# Altium footprint library CONN_TBLOCK_5P08.PcbLib: 72 footprints (part 2 of 5)
Each footprint in its own frame and in the unit in brackets; x right, y up, seen from the top. Pads: shape width x height; smd on the part's side, far side on the other; paste and mask are expansions set on the pad; w line width, h text height; cw(c..) or ccw(c..) is an arc to the next point about the centre after c.
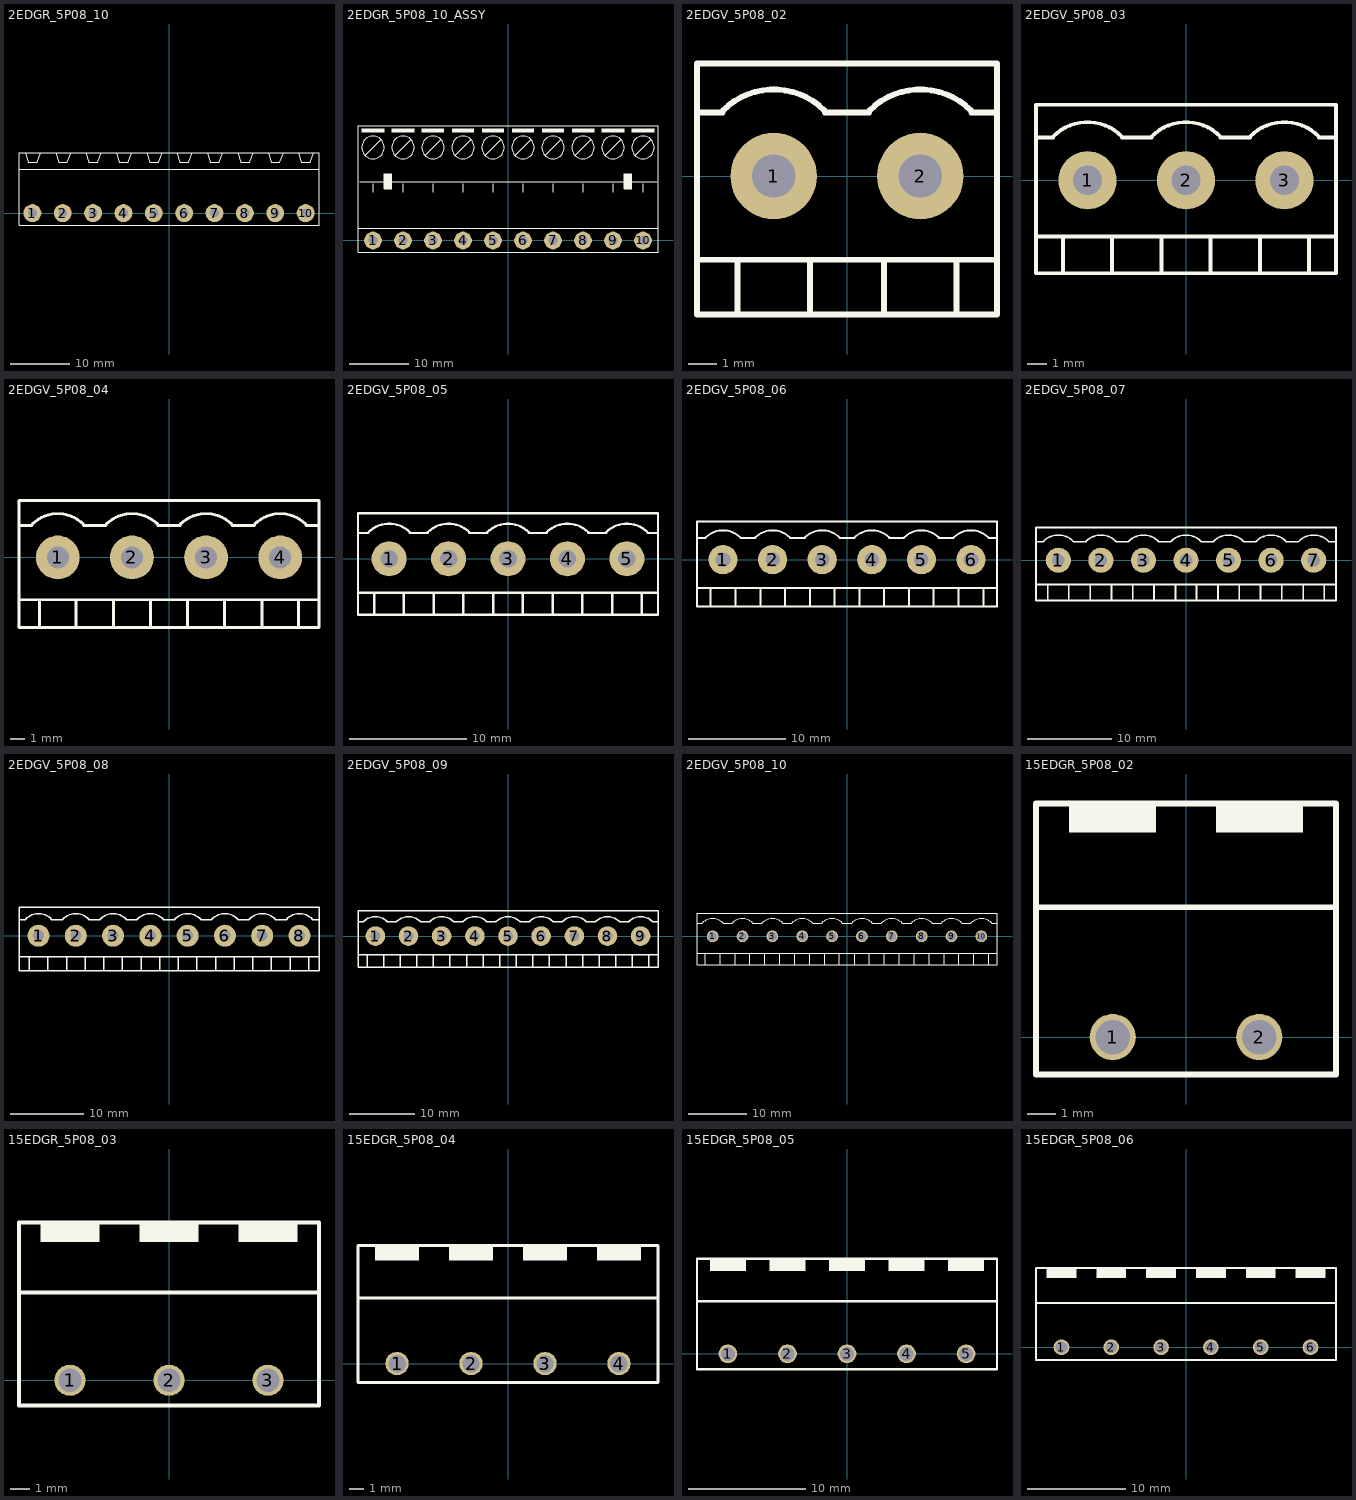
[diagram p1: the footprints below, top view; thin cyan lines are the x and y axes]

## 2EDGR_5P08_10 [mm] "Terminal Plug, pitch 5.08mm, PHOENIX MSTB 2,5/ x-G-5,08"
pads (10):
  round 3 hole 1.5: 1(-22.86,0) 2(-17.78,0) 3(-12.7,0) 4(-7.62,0) 5(-2.54,0) 6(2.54,0) 7(7.62,0) 8(12.7,0) 9(17.78,0) 10(22.86,0)
Top Overlay:
  lines w0.2: -25.1,7.3 25.1,7.3 ; -24.07,10.1 -23.57,8.5 -22.07,8.5 -21.47,10.1 ; -18.99,10.1 -18.49,8.5 -16.99,8.5 -16.39,10.1 ; -13.91,10.1 -13.41,8.5 -11.91,8.5 -11.31,10.1 ; -8.83,10.1 -8.33,8.5 -6.83,8.5 -6.23,10.1 ; -3.75,10.1 -3.25,8.5 -1.75,8.5 -1.15,10.1 ; 1.33,10.1 1.83,8.5 3.33,8.5 3.93,10.1 ; 6.41,10.1 6.91,8.5 8.41,8.5 9.01,10.1 ; 11.49,10.1 11.99,8.5 13.49,8.5 14.09,10.1 ; 16.57,10.1 17.07,8.5 18.57,8.5 19.17,10.1 ; 21.65,10.1 22.15,8.5 23.65,8.5 24.25,10.1 ; -25.1,-2.032 25.1,-2.032 25.1,10.1 -25.1,10.1 -25.1,-2.032
3D body "PHOENIX_MSTB10.stp": height 8.6, standoff -3.5, extent -25,-2 25,10

## 2EDGR_5P08_10_ASSY [mm] "Terminal Plug, pitch 5.08mm, PHOENIX MSTB 2,5/ x-G-5,08"
pads (10):
  round 3 hole 1.5: 1(-22.86,0) 2(-17.78,0) 3(-12.7,0) 4(-7.62,0) 5(-2.54,0) 6(2.54,0) 7(7.62,0) 8(12.7,0) 9(17.78,0) 10(22.86,0)
Top Overlay:
  circle w0.2: c-17.78,15.748 r1.905
  circle w0.2: c-22.86,15.748 r1.905
  circle w0.2: c22.86,15.748 r1.905
  circle w0.2: c17.78,15.748 r1.905
  circle w0.2: c12.7,15.748 r1.905
  circle w0.2: c7.62,15.748 r1.905
  circle w0.2: c2.54,15.748 r1.905
  circle w0.2: c-2.54,15.748 r1.905
  circle w0.2: c-7.62,15.748 r1.905
  circle w0.2: c-12.7,15.748 r1.905
  region: -20.955,18.923 -24.765,18.923 -24.765,18.288 -20.955,18.288
  region: -15.875,18.923 -19.685,18.923 -19.685,18.288 -15.875,18.288
  region: -19.685,11.303 -20.955,11.303 -20.955,8.763 -19.685,8.763
  region: 20.955,11.303 19.685,11.303 19.685,8.763 20.955,8.763
  region: 9.525,18.923 5.715,18.923 5.715,18.288 9.525,18.288
  region: -10.795,18.923 -14.605,18.923 -14.605,18.288 -10.795,18.288
  region: -5.715,18.923 -9.525,18.923 -9.525,18.288 -5.715,18.288
  region: -0.635,18.923 -4.445,18.923 -4.445,18.288 -0.635,18.288
  region: 4.445,18.923 0.635,18.923 0.635,18.288 4.445,18.288
  region: 24.765,18.923 20.955,18.923 20.955,18.288 24.765,18.288
  region: 19.685,18.923 15.875,18.923 15.875,18.288 19.685,18.288
  region: 14.605,18.923 10.795,18.923 10.795,18.288 14.605,18.288
  lines w0.2: -25.4,2.032 25.4,2.032 ; -25.146,9.906 25.146,9.906 ; -24.13,14.478 -21.59,17.018 ; -22.86,8.128 -22.86,9.618 ; -19.05,14.478 -16.51,17.018 ; -17.78,8.128 -17.78,9.618 ; -13.97,14.478 -11.43,17.018 ; -12.7,8.128 -12.7,9.618 ; -8.89,14.478 -6.35,17.018 ; -7.62,8.128 -7.62,9.618 ; -3.81,14.478 -1.27,17.018 ; -2.54,8.128 -2.54,9.618 ; 1.27,14.478 3.81,17.018 ; 2.54,8.128 2.54,9.618 ; 6.35,14.478 8.89,17.018 ; 7.62,8.128 7.62,9.618 ; 11.43,14.478 13.97,17.018 ; 12.7,8.128 12.7,9.618 ; 16.51,14.478 19.05,17.018 ; 17.78,8.128 17.78,9.618 ; 21.59,14.478 24.13,17.018 ; 22.86,8.128 22.86,9.618 ; -25.4,-2.032 -25.4,19.468 25.4,19.468 25.4,-2.032 -25.4,-2.032 ; -20.955,8.763 -20.955,11.303 -19.685,11.303 -19.685,8.763 -20.955,8.763 ; 19.685,8.763 20.955,8.763 20.955,11.303 19.685,11.303 19.685,8.763
3D body "PHOENIX_MSTB10.stp": height 8.6, standoff -3.5, extent -25,-2 25,10
3D body "PHOENIX_MSTB10W.stp": height 15.07, standoff 0.07, extent -25.4,1 25.4,19.2

## 2EDGV_5P08_02 [mm] "Terminal Plug, pitch 5.08mm, PHOENIX MSTBV 2,5/ x-G-5,08"
pads (2):
  round 3 hole 1.5: 1(-2.54,0) 2(2.54,0)
Top Overlay:
  lines w0.2: -5.2,-2.9 5.2,-2.9 ; -5.2,2.2 -4.308,2.2 ; -4.308,2.268 cw(c-2.54,0.5) -0.772,2.268 ; -3.8,-4.8 -3.8,-2.9 ; -1.28,-4.8 -1.28,-2.9 ; -0.772,2.2 0.772,2.2 ; 0.772,2.268 cw(c2.54,0.5) 4.308,2.268 ; 1.28,-4.8 1.28,-2.9 ; 3.8,-4.8 3.8,-2.9 ; 4.308,2.2 5.2,2.2 ; -5.2,-4.8 5.2,-4.8 5.2,3.9 -5.2,3.9 -5.2,-4.8
3D body "MSTBV-2-5-2-G-5-08.stp": height 12, standoff -3.9, extent -5.08,-4.7 5.08,3.87

## 2EDGV_5P08_03 [mm] "Terminal Plug, pitch 5.08mm, PHOENIX MSTBV 2,5/ x-G-5,08"
pads (3):
  round 3 hole 1.5: 1(-5.08,0) 2(0,0) 3(5.08,0)
Top Overlay:
  lines w0.2: -7.74,-2.9 7.74,-2.9 ; -7.74,2.2 -6.848,2.2 ; -6.848,2.268 cw(c-5.08,0.5) -3.312,2.268 ; -6.34,-4.8 -6.34,-2.9 ; -3.82,-4.8 -3.82,-2.9 ; -3.312,2.2 -1.768,2.2 ; -1.768,2.268 cw(c0,0.5) 1.768,2.268 ; -1.26,-4.8 -1.26,-2.9 ; 1.26,-4.8 1.26,-2.9 ; 1.768,2.2 3.312,2.2 ; 3.312,2.268 cw(c5.08,0.5) 6.848,2.268 ; 3.82,-4.8 3.82,-2.9 ; 6.34,-4.8 6.34,-2.9 ; 6.848,2.2 7.74,2.2 ; -7.74,-4.8 -7.74,3.9 7.74,3.9 7.74,-4.8 -7.74,-4.8
3D body "MSTBV-2-5-3-G-5-08.stp": height 12, standoff -3.9, extent -7.62,-4.7 7.62,3.87

## 2EDGV_5P08_04 [mm] "Terminal Plug, pitch 5.08mm, PHOENIX MSTBV 2,5/ x-G-5,08"
pads (4):
  round 3 hole 1.5: 1(-7.62,0) 2(-2.54,0) 3(2.54,0) 4(7.62,0)
Top Overlay:
  lines w0.2: -10.28,-2.9 10.28,-2.9 ; -10.28,2.2 -9.388,2.2 ; -9.388,2.268 cw(c-7.62,0.5) -5.852,2.268 ; -8.88,-4.8 -8.88,-2.9 ; -6.36,-4.8 -6.36,-2.9 ; -5.852,2.2 -4.308,2.2 ; -4.308,2.268 cw(c-2.54,0.5) -0.772,2.268 ; -3.8,-4.8 -3.8,-2.9 ; -1.28,-4.8 -1.28,-2.9 ; -0.772,2.2 0.772,2.2 ; 0.772,2.268 cw(c2.54,0.5) 4.308,2.268 ; 1.28,-4.8 1.28,-2.9 ; 3.8,-4.8 3.8,-2.9 ; 4.308,2.2 5.852,2.2 ; 5.852,2.268 cw(c7.62,0.5) 9.388,2.268 ; 6.36,-4.8 6.36,-2.9 ; 8.88,-4.8 8.88,-2.9 ; 9.388,2.2 10.28,2.2 ; -10.28,-4.8 -10.28,3.9 10.28,3.9 10.28,-4.8 -10.28,-4.8
3D body "MSTBV-2-5-4-G-5-08.stp": height 12, standoff -3.9, extent -10.16,-4.7 10.16,3.87

## 2EDGV_5P08_05 [mm] "Terminal Plug, pitch 5.08mm, PHOENIX MSTBV 2,5/ x-G-5,08"
pads (5):
  round 3 hole 1.5: 1(-10.16,0) 2(-5.08,0) 3(0,0) 4(5.08,0) 5(10.16,0)
Top Overlay:
  lines w0.2: -12.82,-2.9 12.82,-2.9 ; -12.82,2.2 -11.928,2.2 ; -11.928,2.268 cw(c-10.16,0.5) -8.392,2.268 ; -11.42,-4.8 -11.42,-2.9 ; -8.9,-4.8 -8.9,-2.9 ; -8.392,2.2 -6.848,2.2 ; -6.848,2.268 cw(c-5.08,0.5) -3.312,2.268 ; -6.34,-4.8 -6.34,-2.9 ; -3.82,-4.8 -3.82,-2.9 ; -3.312,2.2 -1.768,2.2 ; -1.768,2.268 cw(c0,0.5) 1.768,2.268 ; -1.26,-4.8 -1.26,-2.9 ; 1.26,-4.8 1.26,-2.9 ; 1.768,2.2 3.312,2.2 ; 3.312,2.268 cw(c5.08,0.5) 6.848,2.268 ; 3.82,-4.8 3.82,-2.9 ; 6.34,-4.8 6.34,-2.9 ; 6.848,2.2 8.392,2.2 ; 8.392,2.268 cw(c10.16,0.5) 11.928,2.268 ; 8.9,-4.8 8.9,-2.9 ; 11.42,-4.8 11.42,-2.9 ; 11.928,2.2 12.82,2.2 ; -12.82,-4.8 12.82,-4.8 12.82,3.9 -12.82,3.9 -12.82,-4.8
3D body "MSTBV-2-5-5-G-5-08.stp": height 12, standoff -3.9, extent -12.7,-4.7 12.7,3.87

## 2EDGV_5P08_06 [mm] "Terminal Plug, pitch 5.08mm, PHOENIX MSTBV 2,5/ x-G-5,08"
pads (6):
  round 3 hole 1.5: 1(-12.7,0) 2(-7.62,0) 3(-2.54,0) 4(2.54,0) 5(7.62,0) 6(12.7,0)
Top Overlay:
  lines w0.2: -15.36,-2.9 15.36,-2.9 ; -15.36,2.2 -14.468,2.2 ; -14.468,2.268 cw(c-12.7,0.5) -10.932,2.268 ; -13.96,-4.8 -13.96,-2.9 ; -11.44,-4.8 -11.44,-2.9 ; -10.932,2.2 -9.388,2.2 ; -9.388,2.268 cw(c-7.62,0.5) -5.852,2.268 ; -8.88,-4.8 -8.88,-2.9 ; -6.36,-4.8 -6.36,-2.9 ; -5.852,2.2 -4.308,2.2 ; -4.308,2.268 cw(c-2.54,0.5) -0.772,2.268 ; -3.8,-4.8 -3.8,-2.9 ; -1.28,-4.8 -1.28,-2.9 ; -0.772,2.2 0.772,2.2 ; 0.772,2.268 cw(c2.54,0.5) 4.308,2.268 ; 1.28,-4.8 1.28,-2.9 ; 3.8,-4.8 3.8,-2.9 ; 4.308,2.2 5.852,2.2 ; 5.852,2.268 cw(c7.62,0.5) 9.388,2.268 ; 6.36,-4.8 6.36,-2.9 ; 8.88,-4.8 8.88,-2.9 ; 9.388,2.2 10.932,2.2 ; 10.932,2.268 cw(c12.7,0.5) 14.468,2.268 ; 11.44,-4.8 11.44,-2.9 ; 13.96,-4.8 13.96,-2.9 ; 14.468,2.2 15.36,2.2 ; -15.36,-4.8 15.36,-4.8 15.36,3.9 -15.36,3.9 -15.36,-4.8
3D body "MSTBV-2-5-6-G-5-08.stp": height 12, standoff -3.9, extent -15.24,-4.7 15.24,3.87

## 2EDGV_5P08_07 [mm] "Terminal Plug, pitch 5.08mm, PHOENIX MSTBV 2,5/ x-G-5,08"
pads (7):
  round 3 hole 1.5: 1(-15.24,0) 2(-10.16,0) 3(-5.08,0) 4(0,0) 5(5.08,0) 6(10.16,0) 7(15.24,0)
Top Overlay:
  lines w0.2: -17.9,-2.9 17.9,-2.9 ; -17.9,2.2 -17.008,2.2 ; -17.008,2.268 cw(c-15.24,0.5) -13.472,2.268 ; -16.5,-4.8 -16.5,-2.9 ; -13.98,-4.8 -13.98,-2.9 ; -13.472,2.2 -11.928,2.2 ; -11.928,2.268 cw(c-10.16,0.5) -8.392,2.268 ; -11.42,-4.8 -11.42,-2.9 ; -8.9,-4.8 -8.9,-2.9 ; -8.392,2.2 -6.848,2.2 ; -6.848,2.268 cw(c-5.08,0.5) -3.312,2.268 ; -6.34,-4.8 -6.34,-2.9 ; -3.82,-4.8 -3.82,-2.9 ; -3.312,2.2 -1.768,2.2 ; -1.768,2.268 cw(c0,0.5) 1.768,2.268 ; -1.26,-4.8 -1.26,-2.9 ; 1.26,-4.8 1.26,-2.9 ; 1.768,2.2 3.312,2.2 ; 3.312,2.268 cw(c5.08,0.5) 6.848,2.268 ; 3.82,-4.8 3.82,-2.9 ; 6.34,-4.8 6.34,-2.9 ; 6.848,2.2 8.392,2.2 ; 8.392,2.268 cw(c10.16,0.5) 11.928,2.268 ; 8.9,-4.8 8.9,-2.9 ; 11.42,-4.8 11.42,-2.9 ; 11.928,2.2 13.472,2.2 ; 13.472,2.268 cw(c15.24,0.5) 17.008,2.268 ; 13.98,-4.8 13.98,-2.9 ; 16.5,-4.8 16.5,-2.9 ; 17.008,2.2 17.9,2.2 ; -17.9,-4.8 -17.9,3.9 17.9,3.9 17.9,-4.8 -17.9,-4.8
3D body "MSTBV-2-5-7-G-5-08.stp": height 12, standoff -3.9, extent -17.78,-4.7 17.78,3.87

## 2EDGV_5P08_08 [mm] "Terminal Plug, pitch 5.08mm, PHOENIX MSTBV 2,5/ x-G-5,08"
pads (8):
  round 3 hole 1.5: 1(-17.78,0) 2(-12.7,0) 3(-7.62,0) 4(-2.54,0) 5(2.54,0) 6(7.62,0) 7(12.7,0) 8(17.78,0)
Top Overlay:
  lines w0.2: -20.44,-2.9 20.44,-2.9 ; -20.44,2.2 -19.548,2.2 ; -19.548,2.268 cw(c-17.78,0.5) -16.012,2.268 ; -19.04,-4.8 -19.04,-2.9 ; -16.52,-4.8 -16.52,-2.9 ; -16.012,2.2 -14.468,2.2 ; -14.468,2.268 cw(c-12.7,0.5) -10.932,2.268 ; -13.96,-4.8 -13.96,-2.9 ; -11.44,-4.8 -11.44,-2.9 ; -10.932,2.2 -9.388,2.2 ; -9.388,2.268 cw(c-7.62,0.5) -5.852,2.268 ; -8.88,-4.8 -8.88,-2.9 ; -6.36,-4.8 -6.36,-2.9 ; -5.852,2.2 -4.308,2.2 ; -4.308,2.268 cw(c-2.54,0.5) -0.772,2.268 ; -3.8,-4.8 -3.8,-2.9 ; -1.28,-4.8 -1.28,-2.9 ; -0.772,2.2 0.772,2.2 ; 0.772,2.268 cw(c2.54,0.5) 4.308,2.268 ; 1.28,-4.8 1.28,-2.9 ; 3.8,-4.8 3.8,-2.9 ; 4.308,2.2 5.852,2.2 ; 5.852,2.268 cw(c7.62,0.5) 9.388,2.268 ; 6.36,-4.8 6.36,-2.9 ; 8.88,-4.8 8.88,-2.9 ; 9.388,2.2 10.932,2.2 ; 10.932,2.268 cw(c12.7,0.5) 14.468,2.268 ; 11.44,-4.8 11.44,-2.9 ; 13.96,-4.8 13.96,-2.9 ; 14.468,2.2 16.012,2.2 ; 16.012,2.268 cw(c17.78,0.5) 19.548,2.268 ; 16.52,-4.8 16.52,-2.9 ; 19.04,-4.8 19.04,-2.9 ; 19.548,2.2 20.44,2.2 ; -20.44,-4.8 20.44,-4.8 20.44,3.9 -20.44,3.9 -20.44,-4.8
3D body "MSTBV-2-5-8-G-5-08.stp": height 12, standoff -3.9, extent -20.32,-4.7 20.32,3.87

## 2EDGV_5P08_09 [mm] "Terminal Plug, pitch 5.08mm, PHOENIX MSTBV 2,5/ x-G-5,08"
pads (9):
  round 3 hole 1.5: 1(-20.32,0) 2(-15.24,0) 3(-10.16,0) 4(-5.08,0) 5(0,0) 6(5.08,0) 7(10.16,0) 8(15.24,0) 9(20.32,0)
Top Overlay:
  lines w0.2: -22.98,-2.9 22.98,-2.9 ; -22.98,2.2 -22.088,2.2 ; -22.088,2.268 cw(c-20.32,0.5) -18.552,2.268 ; -21.58,-4.8 -21.58,-2.9 ; -19.06,-4.8 -19.06,-2.9 ; -18.552,2.2 -17.008,2.2 ; -17.008,2.268 cw(c-15.24,0.5) -13.472,2.268 ; -16.5,-4.8 -16.5,-2.9 ; -13.98,-4.8 -13.98,-2.9 ; -13.472,2.2 -11.928,2.2 ; -11.928,2.268 cw(c-10.16,0.5) -8.392,2.268 ; -11.42,-4.8 -11.42,-2.9 ; -8.9,-4.8 -8.9,-2.9 ; -8.392,2.2 -6.848,2.2 ; -6.848,2.268 cw(c-5.08,0.5) -3.312,2.268 ; -6.34,-4.8 -6.34,-2.9 ; -3.82,-4.8 -3.82,-2.9 ; -3.312,2.2 -1.768,2.2 ; -1.768,2.268 cw(c0,0.5) 1.768,2.268 ; -1.26,-4.8 -1.26,-2.9 ; 1.26,-4.8 1.26,-2.9 ; 1.768,2.2 3.312,2.2 ; 3.312,2.268 cw(c5.08,0.5) 6.848,2.268 ; 3.82,-4.8 3.82,-2.9 ; 6.34,-4.8 6.34,-2.9 ; 6.848,2.2 8.392,2.2 ; 8.392,2.268 cw(c10.16,0.5) 11.928,2.268 ; 8.9,-4.8 8.9,-2.9 ; 11.42,-4.8 11.42,-2.9 ; 11.928,2.2 13.472,2.2 ; 13.472,2.268 cw(c15.24,0.5) 17.008,2.268 ; 13.98,-4.8 13.98,-2.9 ; 16.5,-4.8 16.5,-2.9 ; 17.008,2.2 18.552,2.2 ; 18.552,2.268 cw(c20.32,0.5) 22.088,2.268 ; 19.06,-4.8 19.06,-2.9 ; 21.58,-4.8 21.58,-2.9 ; 22.088,2.2 22.98,2.2 ; -22.98,-4.8 -22.98,3.9 22.98,3.9 22.98,-4.8 -22.98,-4.8
3D body "MSTBV-2-5-9-G-5-08.stp": height 12, standoff -3.9, extent -22.86,-4.67 22.86,3.9

## 2EDGV_5P08_10 [mm] "Terminal Plug, pitch 5.08mm, PHOENIX MSTBV 2,5/ x-G-5,08"
pads (10):
  round 2 / inner round 2 / far side oval 2.5x3.5 hole 1.5: 1(-22.86,0) 2(-17.78,0) 3(-12.7,0) 4(-7.62,0) 5(-2.54,0) 6(2.54,0) 7(7.62,0) 8(12.7,0) 9(17.78,0) 10(22.86,0)
Top Overlay:
  lines w0.2: -25.52,-2.9 25.52,-2.9 ; -25.52,2.2 -24.628,2.2 ; -24.628,2.268 cw(c-22.86,0.5) -21.092,2.268 ; -24.12,-4.8 -24.12,-2.9 ; -21.6,-4.8 -21.6,-2.9 ; -21.092,2.2 -19.548,2.2 ; -19.548,2.268 cw(c-17.78,0.5) -16.012,2.268 ; -19.04,-4.8 -19.04,-2.9 ; -16.52,-4.8 -16.52,-2.9 ; -16.012,2.2 -14.468,2.2 ; -14.468,2.268 cw(c-12.7,0.5) -10.932,2.268 ; -13.96,-4.8 -13.96,-2.9 ; -11.44,-4.8 -11.44,-2.9 ; -10.932,2.2 -9.388,2.2 ; -9.388,2.268 cw(c-7.62,0.5) -5.852,2.268 ; -8.88,-4.8 -8.88,-2.9 ; -6.36,-4.8 -6.36,-2.9 ; -5.852,2.2 -4.308,2.2 ; -4.308,2.268 cw(c-2.54,0.5) -0.772,2.268 ; -3.8,-4.8 -3.8,-2.9 ; -1.28,-4.8 -1.28,-2.9 ; -0.772,2.2 0.772,2.2 ; 0.772,2.268 cw(c2.54,0.5) 4.308,2.268 ; 1.28,-4.8 1.28,-2.9 ; 3.8,-4.8 3.8,-2.9 ; 4.308,2.2 5.852,2.2 ; 5.852,2.268 cw(c7.62,0.5) 9.388,2.268 ; 6.36,-4.8 6.36,-2.9 ; 8.88,-4.8 8.88,-2.9 ; 9.388,2.2 10.932,2.2 ; 10.932,2.268 cw(c12.7,0.5) 14.468,2.268 ; 11.44,-4.8 11.44,-2.9 ; 13.96,-4.8 13.96,-2.9 ; 14.468,2.2 16.012,2.2 ; 16.012,2.268 cw(c17.78,0.5) 19.548,2.268 ; 16.52,-4.8 16.52,-2.9 ; 19.04,-4.8 19.04,-2.9 ; 19.548,2.2 21.092,2.2 ; 21.092,2.268 cw(c22.86,0.5) 24.628,2.268 ; 21.6,-4.8 21.6,-2.9 ; 24.12,-4.8 24.12,-2.9 ; 24.628,2.2 25.52,2.2 ; -25.52,-4.8 -25.52,3.9 25.52,3.9 25.52,-4.8 -25.52,-4.8
3D body "MSTBV-2-5-10-G-5-08.stp": height 12, standoff -3.9, extent -25.4,-4.67 25.4,3.9

## 15EDGR_5P08_02 [mm] "Terminal Plug, pitch 5.08mm, PHOENIX MC 1,5/ x-G-5,08"
pads (2):
  round 1.6 / inner round 1.6 / far side oval 2x3 hole 1.2: 1(-2.54,0) 2(2.54,0)
Top Overlay:
  region: -4.04,8.1 -4.04,7.1 -1.04,7.1 -1.04,8.1
  region: 1.04,8.1 1.04,7.1 4.04,7.1 4.04,8.1
  lines w0.2: -5.2,4.5 5.2,4.5 ; -5.2,-1.3 -5.2,8.1 5.2,8.1 5.2,-1.3 -5.2,-1.3
3D body "MC-1-5-2-G-5-08.stp": height 7.25, standoff -3.4, extent -5.08,-1.2 5.08,8

## 15EDGR_5P08_03 [mm] "Terminal Plug, pitch 5.08mm, PHOENIX MC 1,5/ x-G-5,08"
pads (3):
  round 1.6 / inner round 1.6 / far side oval 2x3 hole 1.2: 1(-5.08,0) 2(0,0) 3(5.08,0)
Top Overlay:
  region: 3.58,8.1 3.58,7.1 6.58,7.1 6.58,8.1
  region: -1.5,8.1 -1.5,7.1 1.5,7.1 1.5,8.1
  region: -6.58,8.1 -6.58,7.1 -3.58,7.1 -3.58,8.1
  lines w0.2: -7.7,4.5 7.7,4.5 ; -7.7,-1.3 7.7,-1.3 7.7,8.1 -7.7,8.1 -7.7,-1.3
3D body "MC-1-5-3-G-5-08.stp": height 7.25, standoff -3.4, extent -7.62,-1.2 7.62,8

## 15EDGR_5P08_04 [mm] "Terminal Plug, pitch 5.08mm, PHOENIX MC 1,5/ x-G-5,08"
pads (4):
  round 1.6 / inner round 1.6 / far side oval 2x3 hole 1.2: 1(-7.62,0) 2(-2.54,0) 3(2.54,0) 4(7.62,0)
Top Overlay:
  region: 6.12,8.1 6.12,7.1 9.12,7.1 9.12,8.1
  region: 1.04,8.1 1.04,7.1 4.04,7.1 4.04,8.1
  region: -4.04,8.1 -4.04,7.1 -1.04,7.1 -1.04,8.1
  region: -9.12,8.1 -9.12,7.1 -6.12,7.1 -6.12,8.1
  lines w0.2: -10.3,4.5 10.3,4.5 ; -10.3,-1.3 10.3,-1.3 10.3,8.1 -10.3,8.1 -10.3,-1.3
3D body "MC-1-5-2-G-5-08.stp": height 7.25, standoff -3.4, extent 0,-1.2 10.16,8
3D body "MC-1-5-2-G-5-08.stp": height 7.25, standoff -3.4, extent -10.16,-1.2 0,8

## 15EDGR_5P08_05 [mm] "Terminal Plug, pitch 5.08mm, PHOENIX MC 1,5/ x-G-5,08"
pads (5):
  round 1.6 / inner round 1.6 / far side oval 2x3 hole 1.2: 1(-10.16,0) 2(-5.08,0) 3(0,0) 4(5.08,0) 5(10.16,0)
Top Overlay:
  region: 8.66,8.1 8.66,7.1 11.66,7.1 11.66,8.1
  region: 3.58,8.1 3.58,7.1 6.58,7.1 6.58,8.1
  region: -1.5,8.1 -1.5,7.1 1.5,7.1 1.5,8.1
  region: -6.58,8.1 -6.58,7.1 -3.58,7.1 -3.58,8.1
  region: -11.66,8.1 -11.66,7.1 -8.66,7.1 -8.66,8.1
  lines w0.2: -12.8,4.5 12.8,4.5 ; -12.8,-1.3 12.8,-1.3 12.8,8.1 -12.8,8.1 -12.8,-1.3
3D body "MC-1-5-3-G-5-08.stp": height 7.25, standoff -3.4, extent -2.54,-1.2 12.7,8
3D body "MC-1-5-2-G-5-08.stp": height 7.25, standoff -3.4, extent -12.7,-1.2 -2.54,8

## 15EDGR_5P08_06 [mm] "Terminal Plug, pitch 5.08mm, PHOENIX MC 1,5/ x-G-5,08"
pads (6):
  round 1.6 / inner round 1.6 / far side oval 2x3 hole 1.2: 1(-12.7,0) 2(-7.62,0) 3(-2.54,0) 4(2.54,0) 5(7.62,0) 6(12.7,0)
Top Overlay:
  region: -14.2,8.1 -14.2,7.1 -11.2,7.1 -11.2,8.1
  region: -9.12,8.1 -9.12,7.1 -6.12,7.1 -6.12,8.1
  region: -4.04,8.1 -4.04,7.1 -1.04,7.1 -1.04,8.1
  region: 1.04,8.1 1.04,7.1 4.04,7.1 4.04,8.1
  region: 6.12,8.1 6.12,7.1 9.12,7.1 9.12,8.1
  region: 11.2,8.1 11.2,7.1 14.2,7.1 14.2,8.1
  lines w0.2: -15.3,4.5 15.3,4.5 ; -15.3,-1.3 -15.3,8.1 15.3,8.1 15.3,-1.3 -15.3,-1.3
3D body "MC-1-5-3-G-5-08.stp": height 7.25, standoff -3.4, extent -15.24,-1.2 0,8
3D body "MC-1-5-3-G-5-08.stp": height 7.25, standoff -3.4, extent 0,-1.2 15.24,8